# Altium schematic symbol library MCU Board.SCHLIB: 34 symbols
Pins are listed as number, name and electrical type; pins without a type are passive.

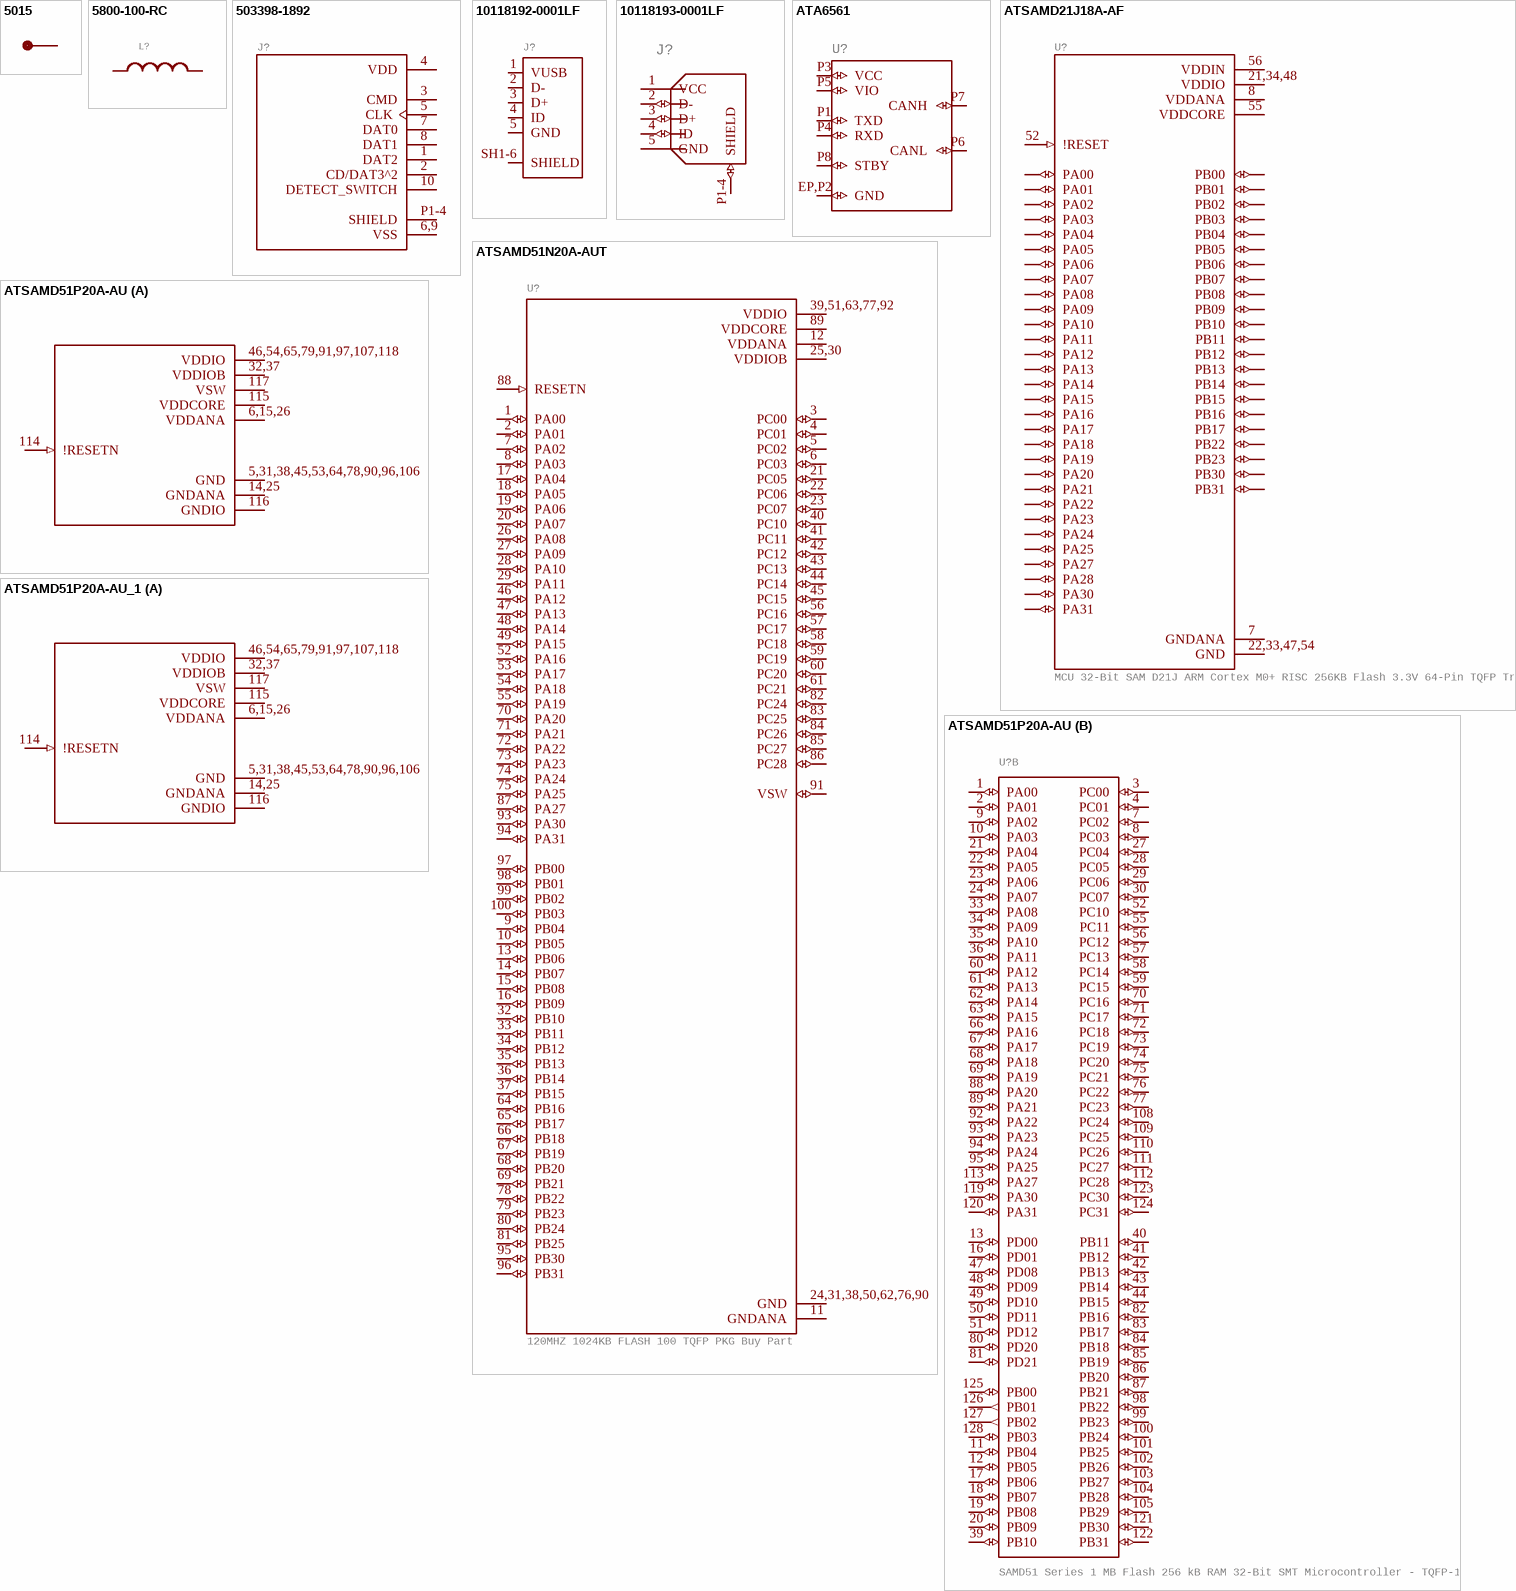
[diagram p0: symbols 5015 to ATSAMD51P20A-AU_1]

## 5015
designator TP?, comment Test Point; Black; Surface Mount; Wire Leaded; Polycarbonate; 0.04 in.  (value not drawn)
GateName_1: G$1; SymbolName_1: 5015; DESCRIPTION: 2.2µH Shielded Wirewound Inductor 4A 52mOhm Max Nonstandard; MF: Keystone Electronics; LibraryName: MCU Board; DeviceSetName: 5015; Package: KEYSTONE_5015; AVAILABILITY: Unavailable; MOUSER-PURCHASE-URL: https://snapeda.com/shop?store=Mouser&id=48459; MP: 5015; PACKAGE: Keystone Electronics; PRICE: None
footprint KEYSTONE_5015
pins: 1 TP

## 5800-100-RC
designator L?
GateName_1: G$1; SymbolName_1: INDUCTOR; DeviceSetName: 5800-100-RC; LibraryName: MCU Board; Package: 5800-100-RC
footprint 5800-100-RC
pins: 1, 2

## 503398-1892
designator J?
GateName_1: G$1; SymbolName_1: 503398-1892; LibraryName: MCU Board; DeviceSetName: 503398-1892; Package: MOLEX_503398-1892
footprint MOLEX_503398-1892
pins: 1 DAT2, 2 CD/DAT3^2, 3 CMD, 4 VDD (power), 5 CLK, 6,9 VSS (power), 7 DAT0, 8 DAT1, 10 DETECT_SWITCH, P1-4 SHIELD

## 10118192-0001LF
designator J?
GateName_1: G$1; SymbolName_1: 10118192-0001LF; LibraryName: MCU Board; DeviceSetName: 10118192-0001LF; Package: 10118192-0001LF
footprint 10118192-0001LF
pins: 1 VUSB, 2 D-, 3 D+, 4 ID, 5 GND, SH1-6 SHIELD

## 10118193-0001LF
designator J?
GateName_1: G$1; SymbolName_1: 10118193-0001LF; LibraryName: MCU Board; DeviceSetName: 10118193-0001LF; Package: 10118193-0001LF
footprint 10118193-0001LF
pins: 1 VCC (power), 2 D- (io), 3 D+ (io), 4 ID (io), 5 GND, P1-4 SHIELD (io)

## ATA6561
designator U?
GateName_1: G$1; SymbolName_1: ATA6561; LibraryName: MCU Board; DeviceSetName: ATA6561; Package: VDFN8
footprint VDFN8
pins: EP,P2 GND (io), P1 TXD (io), P3 VCC (io), P4 RXD (io), P5 VIO (io), P6 CANL (io), P7 CANH (io), P8 STBY (io)

## ATSAMD21J18A-AF
designator U?, comment MCU 32-Bit SAM D21J ARM Cortex M0+ RISC 256KB Flash 3.3V 64-Pin TQFP Tray
GateName_1: G$1; SymbolName_1: ATSAMD21J18A-AF; MF: Microchip; LibraryName: MCU Board; DeviceSetName: ATSAMD21J18A-AF; Package: QFP50P1200X1200X120_64N; AVAILABILITY: Unavailable; DESCRIPTION: MCU 32-Bit SAM D21J ARM Cortex M0+ RISC 256KB Flash 3.3V 64-Pin TQFP Tray; MP: ATSAMD21J18A-AF; PACKAGE: TQFP-64 Microchip; PRICE: None
footprint QFP50P1200X1200X120_64N
pins: 1 PA00 (io), 2 PA01 (io), 3 PA02 (io), 4 PA03 (io), 5 PB04 (io), 6 PB05 (io), 7 GNDANA (power), 8 VDDANA (power), 9 PB06 (io), 10 PB07 (io), 11 PB08 (io), 12 PB09 (io), 13 PA04 (io), 14 PA05 (io), 15 PA06 (io), 16 PA07 (io), 17 PA08 (io), 18 PA09 (io), 19 PA10 (io), 20 PA11 (io), 21,34,48 VDDIO (power), 22,33,47,54 GND (power), 23 PB10 (io), 24 PB11 (io), 25 PB12 (io), 26 PB13 (io), 27 PB14 (io), 28 PB15 (io), 29 PA12 (io), 30 PA13 (io), 31 PA14 (io), 32 PA15 (io), 35 PA16 (io), 36 PA17 (io), 37 PA18 (io), 38 PA19 (io), 39 PB16 (io), 40 PB17 (io), 41 PA20 (io), 42 PA21 (io), 43 PA22 (io), 44 PA23 (io), 45 PA24 (io), 46 PA25 (io), 49 PB22 (io), 50 PB23 (io), 51 PA27 (io), 52 !RESET (in), 53 PA28 (io), 55 VDDCORE (power), 56 VDDIN (power), 57 PA30 (io), 58 PA31 (io), 59 PB30 (io), 60 PB31 (io), 61 PB00 (io), 62 PB01 (io), 63 PB02 (io), 64 PB03 (io)

## ATSAMD51N20A-AUT
designator U?, comment 120MHZ 1024KB FLASH 100 TQFP PKG Buy Part
GateName_1: G$1; SymbolName_1: ATSAMD51N20A-AUT; DESCRIPTION: ARM® Cortex®-M4F SAM D51 Microcontroller IC 32-Bit 120MHz 1MB (1M x 8) FLASH 100-TQFP (14x14); MF: Microchip Technology; LibraryName: MCU Board; DeviceSetName: ATSAMD51N20A-AUT; Package: QFP50P1600X1600X120-100N; AVAILABILITY: Bad; MOUSER-PURCHASE-URL: https://snapeda.com/shop?store=Mouser&id=3077901; MP: ATSAMD51N20A-AUT; PACKAGE: TQFP-100 Microchip Technology; PRICE: None
footprint QFP50P1600X1600X120-100N
pins: 1 PA00 (io), 2 PA01 (io), 3 PC00 (io), 4 PC01 (io), 5 PC02 (io), 6 PC03 (io), 7 PA02 (io), 8 PA03 (io), 9 PB04 (io), 10 PB05 (io), 11 GNDANA (power), 12 VDDANA (power), 13 PB06 (io), 14 PB07 (io), 15 PB08 (io), 16 PB09 (io), 17 PA04 (io), 18 PA05 (io), 19 PA06 (io), 20 PA07 (io), 21 PC05 (io), 22 PC06 (io), 23 PC07 (io), 24,31,38,50,62,76,90 GND (power), 25,30 VDDIOB (power), 26 PA08 (io), 27 PA09 (io), 28 PA10 (io), 29 PA11 (io), 32 PB10 (io), 33 PB11 (io), 34 PB12 (io), 35 PB13 (io), 36 PB14 (io), 37 PB15 (io), 39,51,63,77,92 VDDIO (power), 40 PC10 (io), 41 PC11 (io), 42 PC12 (io), 43 PC13 (io), 44 PC14 (io), 45 PC15 (io), 46 PA12 (io), 47 PA13 (io), 48 PA14 (io), 49 PA15 (io), 52 PA16 (io), 53 PA17 (io), 54 PA18 (io), 55 PA19 (io), 56 PC16 (io), 57 PC17 (io), 58 PC18 (io), 59 PC19 (io), 60 PC20 (io), 61 PC21 (io), 64 PB16 (io), 65 PB17 (io), 66 PB18 (io), 67 PB19 (io), 68 PB20 (io), 69 PB21 (io), 70 PA20 (io), 71 PA21 (io), 72 PA22 (io), 73 PA23 (io), 74 PA24 (io), 75 PA25 (io), 78 PB22 (io), 79 PB23 (io), 80 PB24 (io), 81 PB25 (io), 82 PC24 (io), 83 PC25 (io), 84 PC26 (io), 85 PC27 (io), 86 PC28 (io), 87 PA27 (io), 88 RESETN (in), 89 VDDCORE (power), 91 VSW (io), 93 PA30 (io), 94 PA31 (io), 95 PB30 (io), 96 PB31 (io), 97 PB00 (io), 98 PB01 (io), 99 PB02 (io), 100 PB03 (io)

## ATSAMD51P20A-AU
designator U?, comment SAMD51 Series 1 MB Flash 256 kB RAM 32-Bit SMT Microcontroller - TQFP-128
GateName_1: G$1; SymbolName_1: ATSAMD51P20A-AU_SECTION1; GateName_2: G$2; SymbolName_2: ATSAMD51P20A-AU_SECTION2; DeviceSetName: ATSAMD51P20A-AU; DESCRIPTION: ARM® Cortex®-M4F SAM D51 Microcontroller IC 32-Bit 120MHz 1MB (1M x 8) FLASH 128-TQFP (14x14); MF: Microchip; LibraryName: MCU Board; Package: QFP40P1600X1600X120-128N; AVAILABILITY: Unavailable; MP: ATSAMD51P20A-AU; PACKAGE: TQFP-128 Microchip; PRICE: None
footprint QFP40P1600X1600X120-128N
part A pins: 5,31,38,45,53,64,78,90,96,106 GND (power), 6,15,26 VDDANA (power), 14,25 GNDANA (power), 32,37 VDDIOB (power), 46,54,65,79,91,97,107,118 VDDIO (power), 114 !RESETN (in), 115 VDDCORE (power), 116 GNDIO (power), 117 VSW (power)
part B pins: 1 PA00 (io), 2 PA01 (io), 3 PC00 (io), 4 PC01 (io), 7 PC02 (io), 8 PC03 (io), 9 PA02 (io), 10 PA03 (io), 11 PB04 (io), 12 PB05 (io), 13 PD00 (io), 16 PD01 (io), 17 PB06 (io), 18 PB07 (io), 19 PB08 (io), 20 PB09 (io), 21 PA04 (io), 22 PA05 (io), 23 PA06 (io), 24 PA07 (io), 27 PC04 (io), 28 PC05 (io), 29 PC06 (io), 30 PC07 (io), 33 PA08 (io), 34 PA09 (io), 35 PA10 (io), 36 PA11 (io), 39 PB10 (io), 40 PB11 (io), 41 PB12 (io), 42 PB13 (io), 43 PB14 (io), 44 PB15 (io), 47 PD08 (io), 48 PD09 (io), 49 PD10 (io), 50 PD11 (io), 51 PD12 (io), 52 PC10 (io), 55 PC11 (io), 56 PC12 (io), 57 PC13 (io), 58 PC14 (io), 59 PC15 (io), 60 PA12 (io), 61 PA13 (io), 62 PA14 (io), 63 PA15 (io), 66 PA16 (io), 67 PA17 (io), 68 PA18 (io), 69 PA19 (io), 70 PC16 (io), 71 PC17 (io), 72 PC18 (io), 73 PC19 (io), 74 PC20 (io), 75 PC21 (io), 76 PC22 (io), 77 PC23 (io), 80 PD20 (io), 81 PD21 (io), 82 PB16 (io), 83 PB17 (io), 84 PB18 (io), 85 PB19 (io), 86 PB20 (io), 87 PB21 (io), 88 PA20 (io), 89 PA21 (io), 92 PA22 (io), 93 PA23 (io), 94 PA24 (io), 95 PA25 (io), 98 PB22 (io), 99 PB23 (io), 100 PB24 (io), 101 PB25 (io), 102 PB26 (io), 103 PB27 (io), 104 PB28 (io), 105 PB29 (io), 108 PC24 (io), 109 PC25 (io), 110 PC26 (io), 111 PC27 (io), 112 PC28 (io), 113 PA27 (io), 119 PA30 (io), 120 PA31 (io), 121 PB30 (io), 122 PB31 (io), 123 PC30 (io), 124 PC31 (io), 125 PB00 (io), 126 PB01 (out), 127 PB02 (out), 128 PB03 (io)

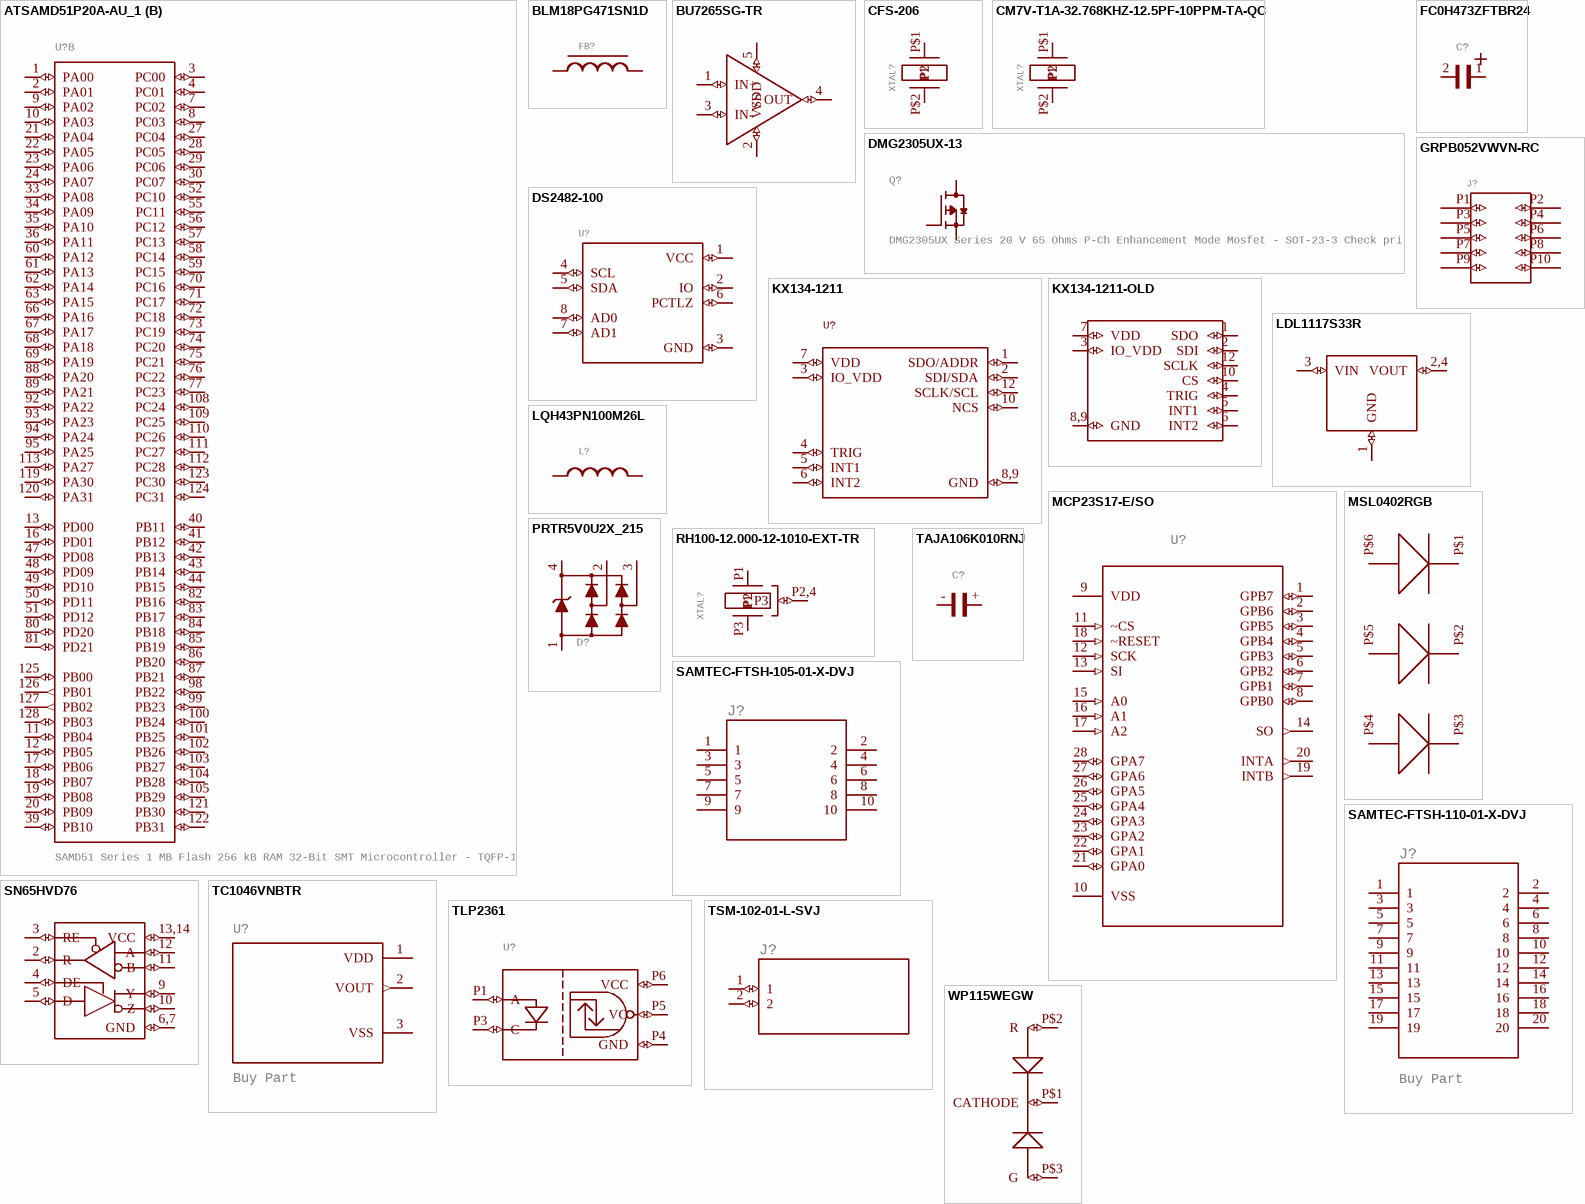
[diagram p1: symbols ATSAMD51P20A-AU_1 to WP115WEGW]

## ATSAMD51P20A-AU_1
designator U?, comment SAMD51 Series 1 MB Flash 256 kB RAM 32-Bit SMT Microcontroller - TQFP-128
GateName_1: G$1; SymbolName_1: ATSAMD51P20A-AU_SECTION1; GateName_2: G$2; SymbolName_2: ATSAMD51P20A-AU_SECTION2; DeviceSetName: ATSAMD51P20A-AU; DESCRIPTION: ARM® Cortex®-M4F SAM D51 Microcontroller IC 32-Bit 120MHz 1MB (1M x 8) FLASH 128-TQFP (14x14); MF: Microchip; LibraryName: MCU Board; Package: QFP40P1600X1600X120-128N; AVAILABILITY: Unavailable; MP: ATSAMD51P20A-AU; PACKAGE: TQFP-128 Microchip; PRICE: None
footprint QFP40P1600X1600X120-128N
part A pins: 5,31,38,45,53,64,78,90,96,106 GND (power), 6,15,26 VDDANA (power), 14,25 GNDANA (power), 32,37 VDDIOB (power), 46,54,65,79,91,97,107,118 VDDIO (power), 114 !RESETN (in), 115 VDDCORE (power), 116 GNDIO (power), 117 VSW (power)
part B pins: 1 PA00 (io), 2 PA01 (io), 3 PC00 (io), 4 PC01 (io), 7 PC02 (io), 8 PC03 (io), 9 PA02 (io), 10 PA03 (io), 11 PB04 (io), 12 PB05 (io), 13 PD00 (io), 16 PD01 (io), 17 PB06 (io), 18 PB07 (io), 19 PB08 (io), 20 PB09 (io), 21 PA04 (io), 22 PA05 (io), 23 PA06 (io), 24 PA07 (io), 27 PC04 (io), 28 PC05 (io), 29 PC06 (io), 30 PC07 (io), 33 PA08 (io), 34 PA09 (io), 35 PA10 (io), 36 PA11 (io), 39 PB10 (io), 40 PB11 (io), 41 PB12 (io), 42 PB13 (io), 43 PB14 (io), 44 PB15 (io), 47 PD08 (io), 48 PD09 (io), 49 PD10 (io), 50 PD11 (io), 51 PD12 (io), 52 PC10 (io), 55 PC11 (io), 56 PC12 (io), 57 PC13 (io), 58 PC14 (io), 59 PC15 (io), 60 PA12 (io), 61 PA13 (io), 62 PA14 (io), 63 PA15 (io), 66 PA16 (io), 67 PA17 (io), 68 PA18 (io), 69 PA19 (io), 70 PC16 (io), 71 PC17 (io), 72 PC18 (io), 73 PC19 (io), 74 PC20 (io), 75 PC21 (io), 76 PC22 (io), 77 PC23 (io), 80 PD20 (io), 81 PD21 (io), 82 PB16 (io), 83 PB17 (io), 84 PB18 (io), 85 PB19 (io), 86 PB20 (io), 87 PB21 (io), 88 PA20 (io), 89 PA21 (io), 92 PA22 (io), 93 PA23 (io), 94 PA24 (io), 95 PA25 (io), 98 PB22 (io), 99 PB23 (io), 100 PB24 (io), 101 PB25 (io), 102 PB26 (io), 103 PB27 (io), 104 PB28 (io), 105 PB29 (io), 108 PC24 (io), 109 PC25 (io), 110 PC26 (io), 111 PC27 (io), 112 PC28 (io), 113 PA27 (io), 119 PA30 (io), 120 PA31 (io), 121 PB30 (io), 122 PB31 (io), 123 PC30 (io), 124 PC31 (io), 125 PB00 (io), 126 PB01 (out), 127 PB02 (out), 128 PB03 (io)

## BLM18PG471SN1D
designator FB?
GateName_1: G$1; SymbolName_1: FERRITE_BEAD; DeviceSetName: BLM18PG471SN1D; LibraryName: MCU Board; Package: 0603
footprint 0603
pins: 1, 2

## BU7265SG-TR
designator U?
GateName_1: G$1; SymbolName_1: OP-AMP; DeviceSetName: BU7265SG-TR; LibraryName: MCU Board; Package: SOT95P285X145-5N
footprint SOT95P285X145-5N
pins: 1 IN+ (io), 2 VSS (io), 3 IN- (io), 4 OUT (io), 5 VDD (io)

## CFS-206
designator XTAL?
GateName_1: G$1; SymbolName_1: OSCILLATOR; DeviceSetName: CFS-206; LibraryName: MCU Board; Package: CFS-206
footprint CFS-206
pins: P$1 P1 (io), P$2 P2 (io)

## CM7V-T1A-32.768KHZ-12.5PF-10PPM-TA-QC
designator XTAL?
GateName_1: G$1; SymbolName_1: OSCILLATOR; DeviceSetName: CM7V-T1A-32.768KHZ-12.5PF-10PPM-TA-QC; LibraryName: MCU Board; Package: CM7V-T1A-32.768KHZ-12.5PF-10PPM-TA-QC
footprint CM7V-T1A-32.768KHZ-12.5PF-10PPM-TA-QC
pins: P$1 P1 (io), P$2 P2 (io)

## DMG2305UX-13
designator Q?, comment DMG2305UX Series 20 V 65 Ohms P-Ch Enhancement Mode Mosfet - SOT-23-3 Check prices
GateName_1: G$1; SymbolName_1: DMG2305UX-13; DESCRIPTION: Trans MOSFET P-CH 20V 4.2A 3-Pin SOT-23 T/R; MF: Diodes Zetex; LibraryName: MCU Board; DeviceSetName: DMG2305UX-13; Package: SOT91P240X110-3N; AVAILABILITY: Good; MP: DMG2305UX-13; PACKAGE: None; PRICE: None; PURCHASE-URL: https://pricing.snapeda.com/search/part/DMG2305UX-13/?ref=eda
footprint SOT91P240X110-3N
pins: 1 G, 2 S, 3 D

## DS2482-100
designator U?
GateName_1: G$1; SymbolName_1: DS2482-100; LibraryName: MCU Board; DeviceSetName: DS2482-100; Package: SOIC8
footprint SOIC8
pins: 1 VCC (io), 2 IO (io), 3 GND (io), 4 SCL (io), 5 SDA (io), 6 PCTLZ (io), 7 AD1 (io), 8 AD0 (io)

## FC0H473ZFTBR24
designator C?
GateName_1: G$1; SymbolName_1: CAP_POL; DeviceSetName: FC0H473ZFTBR24; LibraryName: MCU Board; Package: CAPAE1080X580N
footprint CAPAE1080X580N
pins: 1, 2

## GRPB052VWVN-RC
designator J?
GateName_1: G$1; SymbolName_1: PINHEAD_2X5; DeviceSetName: GRPB052VWVN-RC; LibraryName: MCU Board; Package: GRPB052VWVN-RC
footprint GRPB052VWVN-RC
pins: P1 P$1 (io), P2 P$2 (io), P3 P$3 (io), P4 P$4 (io), P5 P$5 (io), P6 P$6 (io), P7 P$7 (io), P8 P$8 (io), P9 P$9 (io), P10 P$10 (io)

## KX134-1211
designator U?
GateName_1: G$1; SymbolName_1: KX134-1211; LibraryName: MCU Board; DeviceSetName: KX134-1211; Package: KX134-1211
footprint KX134-1211
pins: 1 SDO/ADDR (io), 2 SDI/SDA (io), 3 IO_VDD (io), 4 TRIG (io), 5 INT1 (io), 6 INT2 (io), 7 VDD (io), 8,9 GND (io), 10 NCS (io), 12 SCLK/SCL (io)

## KX134-1211-OLD
designator U?
GateName_1: G$1; SymbolName_1: KX134-1211-OLD; LibraryName: MCU Board; DeviceSetName: KX134-1211-OLD; Package: KIONIX_KXTJ3-1057
footprint KIONIX_KXTJ3-1057
pins: 1 SDO (io), 2 SDI (io), 3 IO_VDD (io), 4 TRIG (io), 5 INT1 (io), 6 INT2 (io), 7 VDD (io), 8,9 GND (io), 10 CS (io), 12 SCLK (io)

## LDL1117S33R
designator U?
GateName_1: G$1; SymbolName_1: LDL1117; DeviceSetName: LDL1117S33R; LibraryName: MCU Board; Package: SOT223
footprint SOT223
pins: 1 GND (io), 2,4 VOUT (io), 3 VIN (io)

## LQH43PN100M26L
designator L?
GateName_1: G$1; SymbolName_1: INDUCTOR; DeviceSetName: LQH43PN100M26L; LibraryName: MCU Board; Package: LQH43PN100M26L
footprint LQH43PN100M26L
pins: 1, 2

## MCP23S17-E/SO
designator U?
GateName_1: G$1; SymbolName_1: MCP23S17-E; DeviceSetName: MCP23S17-E/SO; LibraryName: MCU Board; Package: SOIC28
footprint SOIC28
pins: 1 GPB7 (io), 2 GPB6 (io), 3 GPB5 (io), 4 GPB4 (io), 5 GPB3 (io), 6 GPB2 (io), 7 GPB1 (io), 8 GPB0 (io), 9 VDD (power), 10 VSS (power), 11 ~CS (in), 12 SCK (in), 13 SI (in), 14 SO (out), 15 A0 (in), 16 A1 (in), 17 A2 (in), 18 ~RESET (in), 19 INTB (out), 20 INTA (out), 21 GPA0 (io), 22 GPA1 (io), 23 GPA2 (io), 24 GPA3 (io), 25 GPA4 (io), 26 GPA5 (io), 27 GPA6 (io), 28 GPA7 (io)

## MSL0402RGB
designator D?
GateName_1: G$1; SymbolName_1: MSL0402RGB; LibraryName: MCU Board; DeviceSetName: MSL0402RGB; Package: MSL0402RGB
footprint MSL0402RGB
pins: P1 P$1 (io), P2 P$2 (io), P3 P$3 (io), P4 P$4 (io), P5 P$5 (io), P6 P$6 (io)

## PRTR5V0U2X_215
designator D?
GateName_1: G$1; SymbolName_1: PRTR5V0U2X_215; LibraryName: MCU Board; DeviceSetName: PRTR5V0U2X_215; Package: SOT143B
footprint SOT143B
pins: 1 P$1, 2 P$2, 3 P$3, 4 P$4

## RH100-12.000-12-1010-EXT-TR
designator XTAL?
GateName_1: G$1; SymbolName_1: CRYSTAL_W_GROUND; DeviceSetName: RH100-12.000-12-1010-EXT-TR; LibraryName: MCU Board; Package: RH100-12.000-12-1010-EXT-TR
footprint RH100-12.000-12-1010-EXT-TR
pins: P1 (io), P2,4 P3 (io), P3 P2 (io)

## SAMTEC-FTSH-105-01-X-DVJ
designator J?
GateName_1: A; SymbolName_1: SAMTEC-FTSH-105-01-X-DVA; DeviceName: J; DeviceSetName: SAMTEC-FTSH-105-01-X-DV; LibraryName: MCU Board; Package: SAMTEC-FTSH-105-01-X-DV
footprint SAMTEC-FTSH-105-01-X-DV
pins: 1, 2, 3, 4, 5, 6, 7, 8, 9, 10

## SAMTEC-FTSH-110-01-X-DVJ
designator J?, comment Buy Part
GateName_1: A; SymbolName_1: SAMTEC-FTSH-110-01-X-DVA; DeviceName: J; DeviceSetName: SAMTEC-FTSH-110-01-X-DV; DESCRIPTION: FTSH Series .050 Micro Terminal Strip; MF: Samtec; MP: FTSH-110-01-S-DV; LibraryName: MCU Board; Package: SAMTEC-FTSH-110-01-X-DV; AVAILABILITY: Bad; PACKAGE: None; PRICE: None
footprint SAMTEC-FTSH-110-01-X-DV
pins: 1, 2, 3, 4, 5, 6, 7, 8, 9, 10, 11, 12, 13, 14, 15, 16, 17, 18, 19, 20

## SN65HVD76
designator U?
GateName_1: G$1; SymbolName_1: SN65HVD76; LibraryName: MCU Board; DeviceSetName: SN65HVD76; Package: SOIC127P600X175-14N
footprint SOIC127P600X175-14N
pins: 2 R (io), 3 RE (io), 4 DE (io), 5 D (io), 6,7 GND (io), 9 Y (io), 10 Z (io), 11 B (io), 12 A (io), 13,14 VCC (io)

## TAJA106K010RNJ
designator C?
GateName_1: G$1; SymbolName_1: CAP; DeviceSetName: TAJA106K010RNJ; LibraryName: MCU Board; Package: 1206-POL
footprint 1206-POL
pins: + 1, - 2

## TC1046VNBTR
designator U?, comment Buy Part
GateName_1: A; SymbolName_1: TC1046VNBTR; DESCRIPTION: Temperature Sensor Analog, Local -40°C ~ 125°C 6.25mV/°C SOT-23-3; MF: Microchip; LibraryName: MCU Board; DeviceSetName: TC1046VNBTR; Package: SOT95P237X112-3N; ARROW_ELECTRONICS-PURCHASE-URL: https://snapeda.com/shop?store=Arrow+Electronics&id=234729; AVAILABILITY: Good; DIGIKEY-PURCHASE-URL: https://snapeda.com/shop?store=DigiKey&id=234729; MOUSER-PURCHASE-URL: https://snapeda.com/shop?store=Mouser&id=234729; MP: TC1046VNBTR; PACKAGE: SOT-23 Microchip; PRICE: None
footprint SOT95P237X112-3N
pins: 1 VDD (power), 2 VOUT (out), 3 VSS (power)

## TLP2361
designator U?
GateName_1: G$1; SymbolName_1: TLP2361; LibraryName: MCU Board; DeviceSetName: TLP2361; Package: SOIC6/5
footprint SOIC6/5
pins: P1 A (io), P3 C (io), P4 GND (io), P5 VO (io), P6 VCC (io)

## TSM-102-01-L-SVJ
designator J?
GateName_1: A; SymbolName_1: TSM-102-01-L-SVA; DeviceName: J; DeviceSetName: TSM-102-01-L-SV; DESCRIPTION: Connector Header Surface Mount 2 position 0.100 (2.54mm); MF: Samtec; LibraryName: MCU Board; Package: TSM-102-01-L-SV; DIGI-KEY_PART_NUMBER: SAM14923TR-ND; MP: TSM-102-01-L-SV; PACKAGE: None; TOBY_UK-PURCHASE-URL: https://snapeda.com/shop?store=Toby+UK&id=2748087
footprint TSM-102-01-L-SV
pins: 1 (io), 2 (io)

## WP115WEGW
designator D?
GateName_1: G$1; SymbolName_1: DUAL-LED; DeviceSetName: WP115WEGW; LibraryName: MCU Board; Package: WP115WEGW
footprint WP115WEGW
pins: P$1 CATHODE (io), P$2 R (io), P$3 G (io)